# EAGLE library part SDRAM_MT48H32M16LF (library microbuilder)
MT48H32M16LF - Mobile Low-Power SDR SDRAM 512MBits (8 Meg x 16 x 4 banks) 1.8V, 133MHz, -40°C-85°C Digikey: 557-1389-1-ND
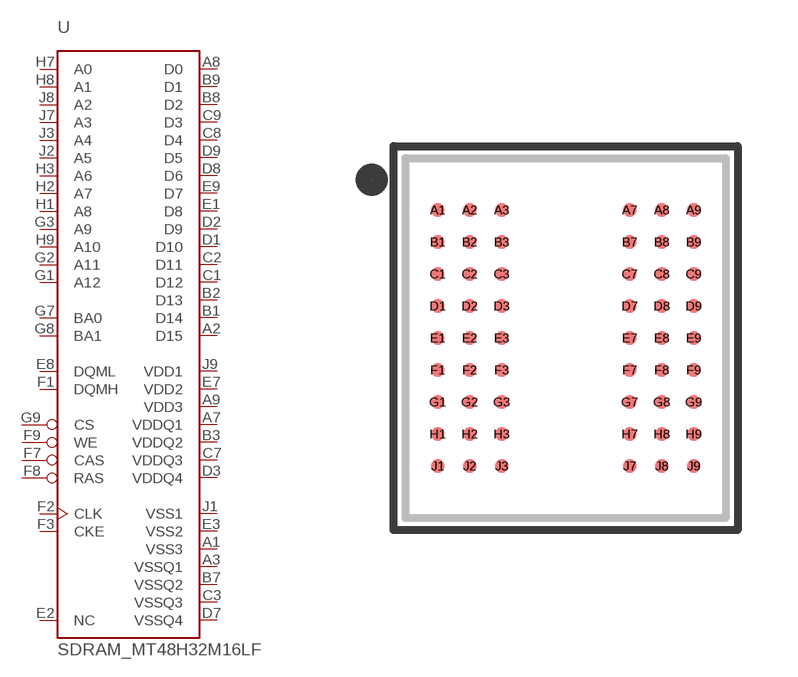
[diagram p73: symbol with the pads of VFBGA54; footprint VFBGA54]

Designator prefix U

## SDRAM_MT48H32M16LF  [VFBGA54]
A1  VSS3
A2  D15
A3  VSSQ1
A7  VDDQ1
A8  D0
A9  VDD3
B1  D14
B2  D13
B3  VDDQ2
B7  VSSQ2
B8  D2
B9  D1
C1  D12
C2  D11
C3  VSSQ3
C7  VDDQ3
C8  D4
C9  D3
D1  D10
D2  D9
D3  VDDQ4
D7  VSSQ4
D8  D6
D9  D5
E1  D8
E2  NC
E3  VSS2
E7  VDD2
E8  DQML
E9  D7
F1  DQMH
F2  CLK
F3  CKE
F7  CAS
F8  RAS
F9  WE
G1  A12
G2  A11
G3  A9
G7  BA0
G8  BA1
G9  CS
H1  A8
H2  A7
H3  A6
H7  A0
H8  A1
H9  A10
J1  VSS1
J2  A5
J3  A4
J7  A3
J8  A2
J9  VDD1

## Footprint VFBGA54 (pad centres in mm)
vFBGA180 (8mm x 9mm, 0.8mm pitch, 0.45mm balls) Source: http://download.micron.com/pdf/datasheets/dram/mobile/512mb_mobile_sdram_y47m.pdf Pad size is 0.34mm copper and ~0.5mm total with the solder mask (which should allow 6mil traces)
smd 0.34 x 0.34: A1 -3.2,3.2; A2 -2.4,3.2; A3 -1.6,3.2; A7 1.6,3.2; A8 2.4,3.2; A9 3.2,3.2; B1 -3.2,2.4; B2 -2.4,2.4; B3 -1.6,2.4; B7 1.6,2.4; B8 2.4,2.4; B9 3.2,2.4; C1 -3.2,1.6; C2 -2.4,1.6; C3 -1.6,1.6; C7 1.6,1.6; C8 2.4,1.6; C9 3.2,1.6; D1 -3.2,0.8; D2 -2.4,0.8; D3 -1.6,0.8; D7 1.6,0.8; D8 2.4,0.8; D9 3.2,0.8; E1 -3.2,0; E2 -2.4,0; E3 -1.6,0; E7 1.6,0; E8 2.4,0; E9 3.2,0; F1 -3.2,-0.8; F2 -2.4,-0.8; F3 -1.6,-0.8; F7 1.6,-0.8; F8 2.4,-0.8; F9 3.2,-0.8; G1 -3.2,-1.6; G2 -2.4,-1.6; G3 -1.6,-1.6; G7 1.6,-1.6; G8 2.4,-1.6; G9 3.2,-1.6; H1 -3.2,-2.4; H2 -2.4,-2.4; H3 -1.6,-2.4; H7 1.6,-2.4; H8 2.4,-2.4; H9 3.2,-2.4; J1 -3.2,-3.2; J2 -2.4,-3.2; J3 -1.6,-3.2; J7 1.6,-3.2; J8 2.4,-3.2; J9 3.2,-3.2